# Altium integrated library OnSemiconductor-NCP1117.IntLib: 18 symbols
Pins are listed as number, name and electrical type; pins without a type are passive.

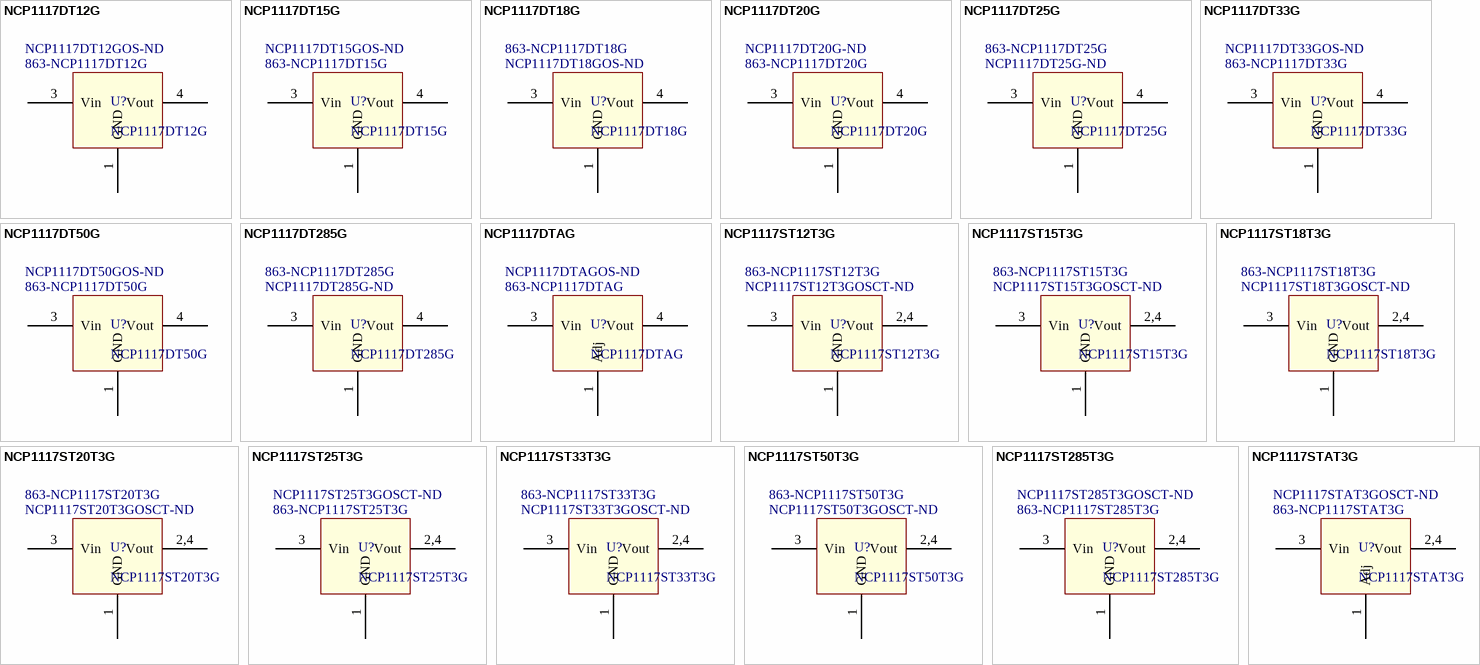
[diagram p0: symbols NCP1117DT12G to NCP1117STAT3G]

## NCP1117DT12G
designator U?  Supplier Part Number 1: 863-NCP1117DT12G  Supplier Part Number 2: NCP1117DT12GOS-ND
On Semiconductor / Linear Voltage Regulator IC Positive Fixed 1 Output 12V 1A / DPAK package; Supplier 1: Mouser; Supplier 2: Digi-Key
footprint DPAK229P991X238-3N (D-PAK, 3-Pads, Body 6.21x6.73mm (max), IPC Medium Density)
pins: 1 GND, 3 Vin, 4 Vout

## NCP1117DT15G
designator U?  Supplier Part Number 1: 863-NCP1117DT15G  Supplier Part Number 2: NCP1117DT15GOS-ND
On Semiconductor / Linear Voltage Regulator IC Positive Fixed 1 Output 1.5V 1A / DPAK package; Supplier 1: Mouser; Supplier 2: Digi-Key
footprint DPAK229P991X238-3N (D-PAK, 3-Pads, Body 6.21x6.73mm (max), IPC Medium Density)
pins: 1 GND, 3 Vin, 4 Vout

## NCP1117DT18G
designator U?  Supplier Part Number 1: NCP1117DT18GOS-ND  Supplier Part Number 2: 863-NCP1117DT18G
On Semiconductor / Linear Voltage Regulator IC Positive Fixed 1 Output 1.8V 1A / DPAK package; Supplier 1: Digi-Key; Supplier 2: Mouser
footprint DPAK229P991X238-3N (D-PAK, 3-Pads, Body 6.21x6.73mm (max), IPC Medium Density)
pins: 1 GND, 3 Vin, 4 Vout

## NCP1117DT20G
designator U?  Supplier Part Number 1: 863-NCP1117DT20G  Supplier Part Number 2: NCP1117DT20G-ND
On Semiconductor / Linear Voltage Regulator IC Positive Fixed 1 Output 2.0V 1A / DPAK package; Supplier 1: Mouser; Supplier 2: Digi-Key
footprint DPAK229P991X238-3N (D-PAK, 3-Pads, Body 6.21x6.73mm (max), IPC Medium Density)
pins: 1 GND, 3 Vin, 4 Vout

## NCP1117DT25G
designator U?  Supplier Part Number 1: NCP1117DT25G-ND  Supplier Part Number 2: 863-NCP1117DT25G
On Semiconductor / Linear Voltage Regulator IC Positive Fixed 1 Output 2.5V 1A / DPAK package; Supplier 1: Digi-Key; Supplier 2: Mouser
footprint DPAK229P991X238-3N (D-PAK, 3-Pads, Body 6.21x6.73mm (max), IPC Medium Density)
pins: 1 GND, 3 Vin, 4 Vout

## NCP1117DT33G
designator U?  Supplier Part Number 1: 863-NCP1117DT33G  Supplier Part Number 2: NCP1117DT33GOS-ND
On Semiconductor / Linear Voltage Regulator IC Positive Fixed 1 Output 3.3V 1A / DPAK package; Supplier 1: Mouser; Supplier 2: Digi-Key
footprint DPAK229P991X238-3N (D-PAK, 3-Pads, Body 6.21x6.73mm (max), IPC Medium Density)
pins: 1 GND, 3 Vin, 4 Vout

## NCP1117DT50G
designator U?  Supplier Part Number 1: 863-NCP1117DT50G  Supplier Part Number 2: NCP1117DT50GOS-ND
On Semiconductor / Linear Voltage Regulator IC Positive Fixed 1 Output 5.0V 1A / DPAK package; Supplier 1: Mouser; Supplier 2: Digi-Key
footprint DPAK229P991X238-3N (D-PAK, 3-Pads, Body 6.21x6.73mm (max), IPC Medium Density)
pins: 1 GND, 3 Vin, 4 Vout

## NCP1117DT285G
designator U?  Supplier Part Number 1: NCP1117DT285G-ND  Supplier Part Number 2: 863-NCP1117DT285G
On Semiconductor / Linear Voltage Regulator IC Positive Fixed 1 Output 2.85V 1A / DPAK package; Supplier 1: Digi-Key; Supplier 2: Mouser
footprint DPAK229P991X238-3N (D-PAK, 3-Pads, Body 6.21x6.73mm (max), IPC Medium Density)
pins: 1 GND, 3 Vin, 4 Vout

## NCP1117DTAG
designator U?  Supplier Part Number 1: 863-NCP1117DTAG  Supplier Part Number 2: NCP1117DTAGOS-ND
On Semiconductor / Linear Voltage Regulator IC Positive Adjustable 1 Output 1A / DPAK package; Supplier 1: Mouser; Supplier 2: Digi-Key
footprint DPAK229P991X238-3N (D-PAK, 3-Pads, Body 6.21x6.73mm (max), IPC Medium Density)
pins: 1 Adj, 3 Vin, 4 Vout

## NCP1117ST12T3G
designator U?  Supplier Part Number 1: NCP1117ST12T3GOSCT-ND  Supplier Part Number 2: 863-NCP1117ST12T3G
On Semiconductor / Linear Voltage Regulator IC Positive Fixed 1 Output 12V 1A / SOT-223 package; Supplier 1: Digi-Key; Supplier 2: Mouser
footprint SOT230P700X180-4N (SOT223, 4-Leads, Body 6.50x7.00mm (avg), Pitch 2.30mm, IPC Medium Density)
pins: 1 GND, 2,4 Vout, 3 Vin

## NCP1117ST15T3G
designator U?  Supplier Part Number 1: NCP1117ST15T3GOSCT-ND  Supplier Part Number 2: 863-NCP1117ST15T3G
On Semiconductor / Linear Voltage Regulator IC Positive Fixed 1 Output 1.5V 1A / SOT-223 package; Supplier 1: Digi-Key; Supplier 2: Mouser
footprint SOT230P700X180-4N (SOT223, 4-Leads, Body 6.50x7.00mm (avg), Pitch 2.30mm, IPC Medium Density)
pins: 1 GND, 2,4 Vout, 3 Vin

## NCP1117ST18T3G
designator U?  Supplier Part Number 1: NCP1117ST18T3GOSCT-ND  Supplier Part Number 2: 863-NCP1117ST18T3G
On Semiconductor / Linear Voltage Regulator IC Positive Fixed 1 Output 1.8V 1A / SOT-223 package; Supplier 1: Digi-Key; Supplier 2: Mouser
footprint SOT230P700X180-4N (SOT223, 4-Leads, Body 6.50x7.00mm (avg), Pitch 2.30mm, IPC Medium Density)
pins: 1 GND, 2,4 Vout, 3 Vin

## NCP1117ST20T3G
designator U?  Supplier Part Number 1: NCP1117ST20T3GOSCT-ND  Supplier Part Number 2: 863-NCP1117ST20T3G
On Semiconductor / Linear Voltage Regulator IC Positive Fixed 1 Output 2.0V 1A / SOT-223 package; Supplier 1: Digi-Key; Supplier 2: Mouser
footprint SOT230P700X180-4N (SOT223, 4-Leads, Body 6.50x7.00mm (avg), Pitch 2.30mm, IPC Medium Density)
pins: 1 GND, 2,4 Vout, 3 Vin

## NCP1117ST25T3G
designator U?  Supplier Part Number 1: 863-NCP1117ST25T3G  Supplier Part Number 2: NCP1117ST25T3GOSCT-ND
On Semiconductor / Linear Voltage Regulator IC Positive Fixed 1 Output 2.5V 1A / SOT-223 package; Supplier 1: Mouser; Supplier 2: Digi-Key
footprint SOT230P700X180-4N (SOT223, 4-Leads, Body 6.50x7.00mm (avg), Pitch 2.30mm, IPC Medium Density)
pins: 1 GND, 2,4 Vout, 3 Vin

## NCP1117ST33T3G
designator U?  Supplier Part Number 1: NCP1117ST33T3GOSCT-ND  Supplier Part Number 2: 863-NCP1117ST33T3G
On Semiconductor / Linear Voltage Regulator IC Positive Fixed 1 Output 3.3V 1A / SOT-223 package; Supplier 1: Digi-Key; Supplier 2: Mouser
footprint SOT230P700X180-4N (SOT223, 4-Leads, Body 6.50x7.00mm (avg), Pitch 2.30mm, IPC Medium Density)
pins: 1 GND, 2,4 Vout, 3 Vin

## NCP1117ST50T3G
designator U?  Supplier Part Number 1: NCP1117ST50T3GOSCT-ND  Supplier Part Number 2: 863-NCP1117ST50T3G
On Semiconductor / Linear Voltage Regulator IC Positive Fixed 1 Output 5.0V 1A / SOT-223 package; Supplier 1: Digi-Key; Supplier 2: Mouser
footprint SOT230P700X180-4N (SOT223, 4-Leads, Body 6.50x7.00mm (avg), Pitch 2.30mm, IPC Medium Density)
pins: 1 GND, 2,4 Vout, 3 Vin

## NCP1117ST285T3G
designator U?  Supplier Part Number 1: 863-NCP1117ST285T3G  Supplier Part Number 2: NCP1117ST285T3GOSCT-ND
On Semiconductor / Linear Voltage Regulator IC Positive Fixed 1 Output 2.85V 1A / SOT-223 package; Supplier 1: Mouser; Supplier 2: Digi-Key
footprint SOT230P700X180-4N (SOT223, 4-Leads, Body 6.50x7.00mm (avg), Pitch 2.30mm, IPC Medium Density)
pins: 1 GND, 2,4 Vout, 3 Vin

## NCP1117STAT3G
designator U?  Supplier Part Number 1: 863-NCP1117STAT3G  Supplier Part Number 2: NCP1117STAT3GOSCT-ND
On Semiconductor / Linear Voltage Regulator IC Positive Adjustable 1 Output 1A / SOT-223 package; Supplier 1: Mouser; Supplier 2: Digi-Key
footprint SOT230P700X180-4N (SOT223, 4-Leads, Body 6.50x7.00mm (avg), Pitch 2.30mm, IPC Medium Density)
pins: 1 Adj, 2,4 Vout, 3 Vin